# EAGLE library part SP3238 (library serial_interfaces)
IC TXRX RS232 INTELLIGENT 28SSOP
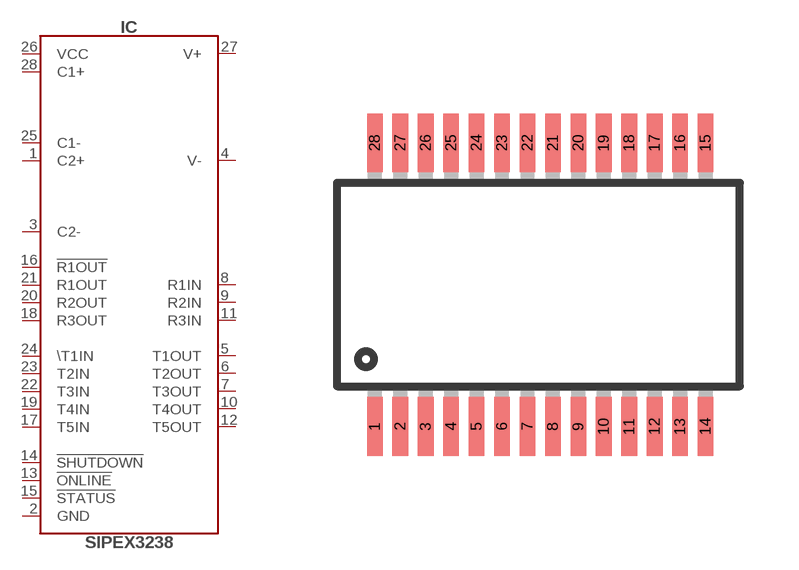
[diagram p35: symbol with the pads of SSOP28; footprint SSOP28]

Designator prefix IC

## SP3238 (DIGIKEY#: 1016-1810-1-ND; MANF: Exar Corporation; MANF#: SP3238EEA-L/TR)  [SSOP28]
1  C2+
2  GND
3  C2-
4  V-
5  T1OUT
6  T2OUT
7  T3OUT
8  R1IN
9  R2IN
10  T4OUT
11  R3IN
12  T5OUT
13  !ONLINE
14  !SHUTDOWN  in
15  !STATUS
16  !R1OUT
17  T5IN
18  R3OUT
19  T4IN
20  R2OUT
21  R1OUT
22  T3IN
23  T2IN
24  \T1IN
25  C1-
26  VCC
27  V+
28  C1+

## Footprint SSOP28 (pad centres in mm)
Shrink Small Outline Package package type SS
smd 0.4 x 1.5: 1 -4.225,-3.625; 2 -3.575,-3.625; 3 -2.925,-3.625; 4 -2.275,-3.625; 5 -1.625,-3.625; 6 -0.975,-3.625; 7 -0.325,-3.625; 8 0.325,-3.625; 9 0.975,-3.625; 10 1.625,-3.625; 11 2.275,-3.625; 12 2.925,-3.625; 13 3.575,-3.625; 14 4.225,-3.625; 15 4.225,3.625; 16 3.575,3.625; 17 2.925,3.625; 18 2.275,3.625; 19 1.625,3.625; 20 0.975,3.625; 21 0.325,3.625; 22 -0.325,3.625; 23 -0.975,3.625; 24 -1.625,3.625; 25 -2.275,3.625; 26 -2.925,3.625; 27 -3.575,3.625; 28 -4.225,3.625